# EAGLE library part MX165C (library cml-micro)
CTCSS ENCODER/DECODER
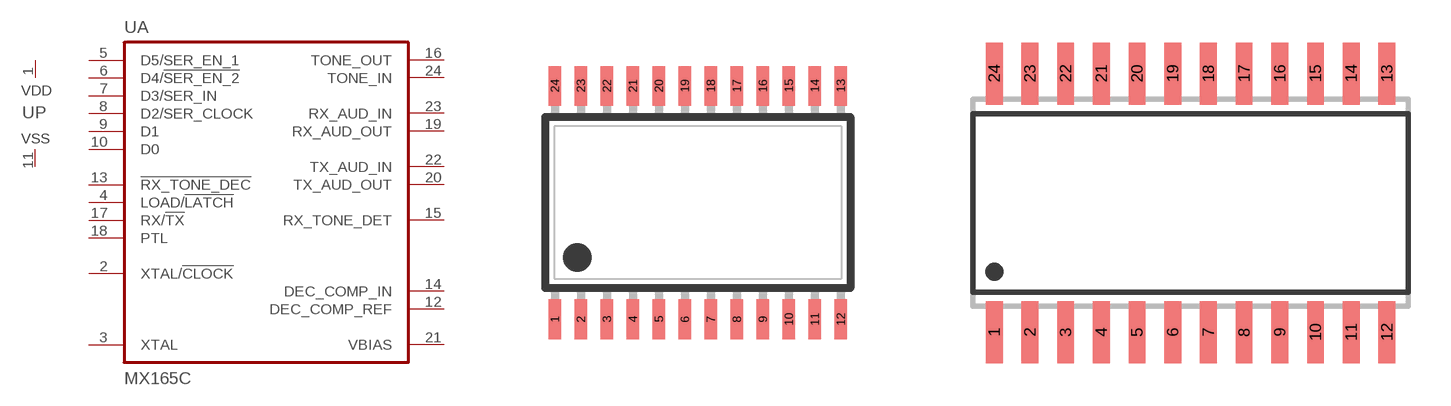
[diagram p1: symbol with the pads of TSSOP24; footprints TSSOP24, SO24W]

Designator prefix U; gates A=MX165 P=VDDVSS

## MX165CTN  [TSSOP24]
1  P:VDD  pwr
2  A:XTAL/!CLOCK!  in
3  A:XTAL  out
4  A:LOAD/!LATCH!  in
5  A:D5/SER_EN_1  in
6  A:D4/!SER_EN_2!  in
7  A:D3/SER_IN  in
8  A:D2/SER_CLOCK  in
9  A:D1  in
10  A:D0  in
11  P:VSS  pwr
12  A:DEC_COMP_REF  in
13  A:!RX_TONE_DEC!  out
14  A:DEC_COMP_IN  in
15  A:RX_TONE_DET  out
16  A:TONE_OUT  out
17  A:RX/!TX!  in
18  A:PTL  in
19  A:RX_AUD_OUT  out
20  A:TX_AUD_OUT  out
21  A:VBIAS  in
22  A:TX_AUD_IN  in
23  A:RX_AUD_IN  in
24  A:TONE_IN  in

## MX165CDW  [SO24W]
Pads as for TSSOP24

## MX165CP  [DIL24-6]
Pads as for TSSOP24

## Footprint TSSOP24 (pad centres in mm)
Thin Shrink Small Outline Plastic 24
smd 0.305 x 0.991: 1 -3.575,-2.918; 2 -2.925,-2.918; 3 -2.275,-2.918; 4 -1.625,-2.918; 5 -0.975,-2.918; 6 -0.325,-2.918; 7 0.325,-2.918; 8 0.975,-2.918; 9 1.625,-2.918; 10 2.275,-2.918; 11 2.925,-2.918; 12 3.575,-2.918; 13 3.575,2.918; 14 2.925,2.918; 15 2.275,2.918; 16 1.625,2.918; 17 0.975,2.918; 18 0.325,2.918; 19 -0.325,2.918; 20 -0.975,2.918; 21 -1.625,2.918; 22 -2.275,2.918; 23 -2.925,2.918; 24 -3.575,2.918

## Footprint SO24W (pad centres in mm)
SMALL OUTLINE INTEGRATED CIRCUIT wide body 7.5 mm/JEDEC MO-119AA
smd 0.6 x 2.2: 1 -6.985,-4.6; 2 -5.715,-4.6; 3 -4.445,-4.6; 4 -3.175,-4.6; 5 -1.905,-4.6; 6 -0.635,-4.6; 7 0.635,-4.6; 8 1.905,-4.6; 9 3.175,-4.6; 10 4.445,-4.6; 11 5.715,-4.6; 12 6.985,-4.6; 13 6.985,4.6; 14 5.715,4.6; 15 4.445,4.6; 16 3.175,4.6; 17 1.905,4.6; 18 0.635,4.6; 19 -0.635,4.6; 20 -1.905,4.6; 21 -3.175,4.6; 22 -4.445,4.6; 23 -5.715,4.6; 24 -6.985,4.6

## Footprint DIL24-6 (pad centres in mm)
Dual In Line Package 0.6 inch
drill 0.813 long: 1 -13.97,-7.62; 2 -11.43,-7.62; 3 -8.89,-7.62; 4 -6.35,-7.62; 5 -3.81,-7.62; 6 -1.27,-7.62; 7 1.27,-7.62; 8 3.81,-7.62; 9 6.35,-7.62; 10 8.89,-7.62; 11 11.43,-7.62; 12 13.97,-7.62; 13 13.97,7.62; 14 11.43,7.62; 15 8.89,7.62; 16 6.35,7.62; 17 3.81,7.62; 18 1.27,7.62; 19 -1.27,7.62; 20 -3.81,7.62; 21 -6.35,7.62; 22 -8.89,7.62; 23 -11.43,7.62; 24 -13.97,7.62